# EAGLE library part PCA9306 (library new-pca9306)
Bidirectional I2C level shifter. NOT compatible with all available part number pinout schemes- DOUBLE CHECK!!!
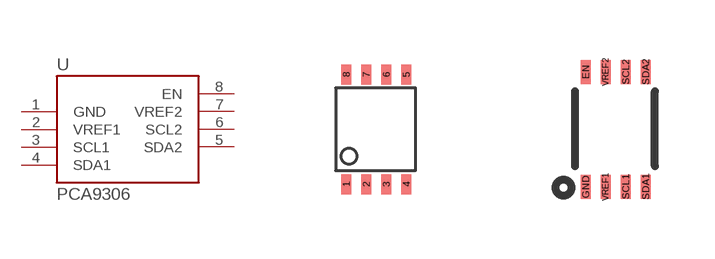
[diagram p44: symbol with the pads of PSOP-8; footprints PSOP-8, PCA9306DC-1:1]

Designator prefix U

## PCA9306 (PROD_ID: IC-10023; VALUE: PCA9306)  [PSOP-8]
1  GND
2  VREF1
3  SCL1
4  SDA1
5  SDA2
6  SCL2
7  VREF2
8  EN

## PCA9306PCA9306DC-1:1 (PROD_ID: IC-10023; VALUE: PCA9306)  [PCA9306DC-1:1]
EN  EN
GND  GND
SCL1  SCL1
SCL2  SCL2
SDA1  SDA1
SDA2  SDA2
VREF1  VREF1
VREF2  VREF2

## Footprint PSOP-8 (pad centres in mm)
smd 0.25 x 0.5: 1 -0.73,-1.37; 2 -0.23,-1.37; 3 0.27,-1.37; 4 0.77,-1.37; 5 0.77,1.38; 6 0.27,1.38; 7 -0.23,1.38; 8 -0.73,1.38

## Footprint PCA9306DC-1:1 (pad centres in mm)
smd 0.25 x 0.602: EN -0.73,1.431; GND -0.73,-1.446; SCL1 0.27,-1.446; SCL2 0.27,1.431; SDA1 0.77,-1.446; SDA2 0.77,1.431; VREF1 -0.23,-1.446; VREF2 -0.23,1.431